# Altium schematic symbol library M_CON1x4_HSNG.Schlib: 1 symbol
Pins are listed as number, name and electrical type; pins without a type are passive.

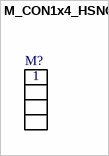
[diagram p0: symbol M_CON1x4_HSNG]

## M_CON1x4_HSNG
designator M?  (mechanical)
text: 1